# EAGLE library part FYM-1228AXX (library john)
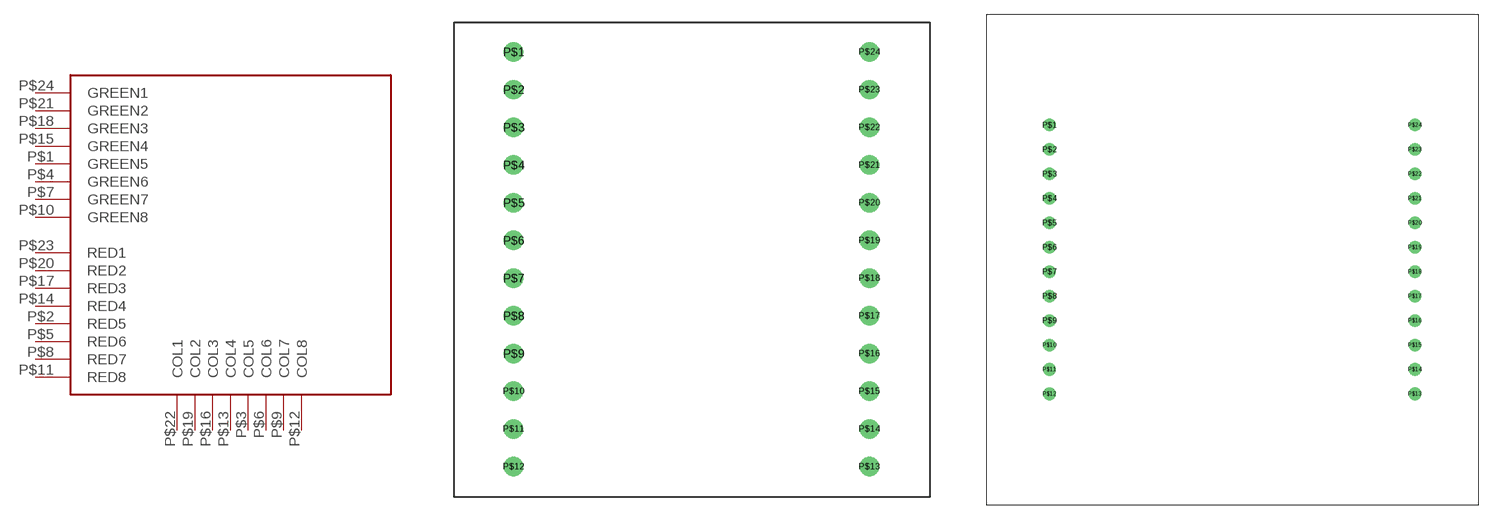
[diagram p0: symbol with the pads of FYM-12881ABXX; footprints FYM-12881ABXX, YSM-2088CR3G2C]

Designator prefix -

## FYM-1228AXX  [FYM-12881ABXX]
P$1  GREEN5
P$2  RED5
P$3  COL5
P$4  GREEN6
P$5  RED6
P$6  COL6
P$7  GREEN7
P$8  RED7
P$9  COL7
P$10  GREEN8
P$11  RED8
P$12  COL8
P$13  COL4
P$14  RED4
P$15  GREEN4
P$16  COL3
P$17  RED3
P$18  GREEN3
P$19  COL2
P$20  RED2
P$21  GREEN2
P$22  COL1
P$23  RED1
P$24  GREEN1

## FYM-1228AXXMED  [YSM-2088CR3G2C]
Pads as for FYM-12881ABXX

## Footprint FYM-12881ABXX (pad centres in mm)
drill 0.8 round: P$1 0,0; P$2 0,-2.54; P$3 0,-5.08; P$4 0,-7.62; P$5 0,-10.16; P$6 0,-12.7; P$7 0,-15.24; P$8 0,-17.78; P$9 0,-20.32; P$10 0,-22.86; P$11 0,-25.4; P$12 0,-27.94; P$13 23.94,-27.94; P$14 23.94,-25.4; P$15 23.94,-22.86; P$16 23.94,-20.32; P$17 23.94,-17.78; P$18 23.94,-15.24; P$19 23.94,-12.7; P$20 23.94,-10.16; P$21 23.94,-7.62; P$22 23.94,-5.08; P$23 23.94,-2.54; P$24 23.94,0

## Footprint YSM-2088CR3G2C (pad centres in mm)
drill 0.8 round: P$1 0,0; P$2 0,-2.54; P$3 0,-5.08; P$4 0,-7.62; P$5 0,-10.16; P$6 0,-12.7; P$7 0,-15.24; P$8 0,-17.78; P$9 0,-20.32; P$10 0,-22.86; P$11 0,-25.4; P$12 0,-27.94; P$13 37.94,-27.94; P$14 37.94,-25.4; P$15 37.94,-22.86; P$16 37.94,-20.32; P$17 37.94,-17.78; P$18 37.94,-15.24; P$19 37.94,-12.7; P$20 37.94,-10.16; P$21 37.94,-7.62; P$22 37.94,-5.08; P$23 37.94,-2.54; P$24 37.94,0